# EAGLE library part 74HC595 (library 595-541-165-uln2803)
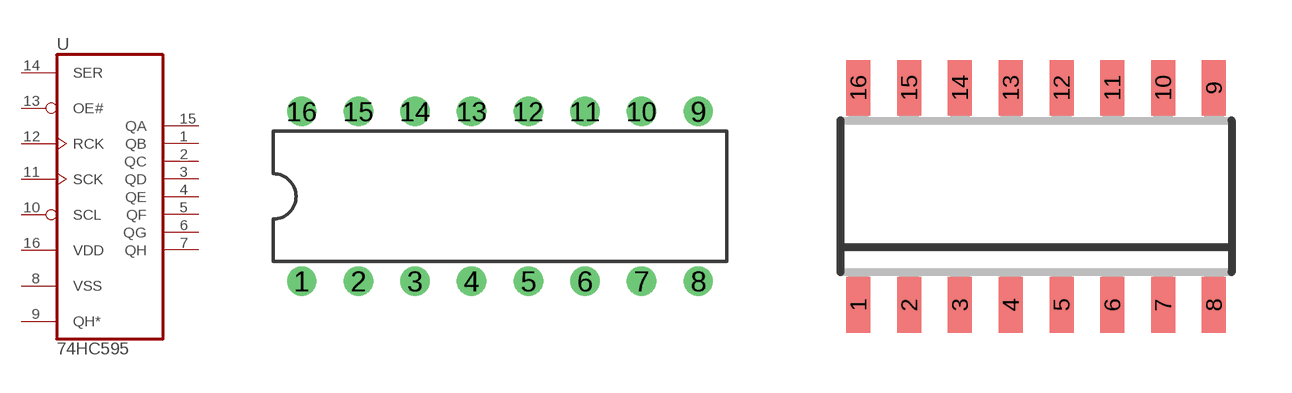
[diagram p1: symbol with the pads of DIL16; footprints DIL16, SO16D]

Designator prefix -

## 74HC595, 74HC595DIP16, 74HC595SO16D  [DIL16]
1  QB  hiz
2  QC  hiz
3  QD  hiz
4  QE  hiz
5  QF  hiz
6  QG  hiz
7  QH  hiz
8  VSS  pwr
9  QH*  hiz
10  SCL  in
11  SCK  in
12  RCK  in
13  OE#  in
14  SER  in
15  QA  hiz
16  VDD  pwr

## 74HC595SO16D  [SO16D]
Pads as for DIL16

## Footprint DIL16 (pad centres in mm)
drill 0.813: 1 -8.89,-3.81; 2 -6.35,-3.81; 3 -3.81,-3.81; 4 -1.27,-3.81; 5 1.27,-3.81; 6 3.81,-3.81; 7 6.35,-3.81; 8 8.89,-3.81; 9 8.89,3.81; 10 6.35,3.81; 11 3.81,3.81; 12 1.27,3.81; 13 -1.27,3.81; 14 -3.81,3.81; 15 -6.35,3.81; 16 -8.89,3.81

## Footprint SO16D (pad centres in mm)
smd 0.6 x 1.4: 1 -4.481,-2.764; 2 -3.211,-2.764; 3 -1.941,-2.764; 4 -0.671,-2.764; 5 0.599,-2.764; 6 1.869,-2.764; 7 3.139,-2.764; 8 4.409,-2.764; 9 4.409,2.666; 10 3.139,2.666; 11 1.869,2.666; 12 0.599,2.666; 13 -0.671,2.666; 14 -1.941,2.666; 15 -3.211,2.666; 16 -4.481,2.666